# Altium footprint library EV-MICRO287-MINI.PcbLib: 1 footprints
Each footprint in its own frame and in the unit in brackets; x right, y up, seen from the top. Pads: shape width x height; smd on the part's side, far side on the other; paste and mask are expansions set on the pad; w line width, h text height; cw(c..) or ccw(c..) is an arc to the next point about the centre after c.
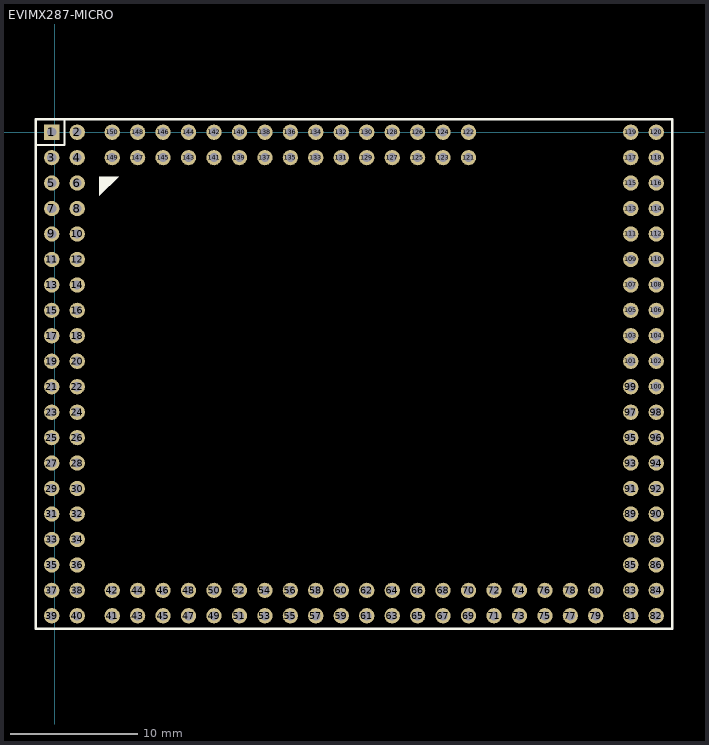
[diagram p0: the footprint, top view; thin cyan lines are the x and y axes]

## EVIMX287-MICRO [mm]
pads (150):
  rect 1.2x1.2 hole 0.711: 1(-0.25,0)
  round 1.2 hole 0.711: 2(1.75,0) 3(-0.25,-2) 4(1.75,-2) 5(-0.25,-4) 6(1.75,-4) 7(-0.25,-6) 8(1.75,-6) 9(-0.25,-8) 10(1.75,-8) 11(-0.25,-10) 12(1.75,-10) 13(-0.25,-12) 14(1.75,-12) 15(-0.25,-14) 16(1.75,-14) 17(-0.25,-16) 18(1.75,-16) 19(-0.25,-18) 20(1.75,-18) 21(-0.25,-20) 22(1.75,-20) 23(-0.25,-22) 24(1.75,-22) 25(-0.25,-24) 26(1.75,-24) 27(-0.25,-26) 28(1.75,-26) 29(-0.25,-28) 30(1.75,-28) 31(-0.25,-30) 32(1.75,-30) 33(-0.25,-32) 34(1.75,-32) 35(-0.25,-34) 36(1.75,-34) 37(-0.25,-36) 38(1.75,-36) 39(-0.25,-38) 40(1.75,-38) 41(4.5,-38) 42(4.5,-36) 43(6.5,-38) 44(6.5,-36) 45(8.5,-38) 46(8.5,-36) 47(10.5,-38) 48(10.5,-36) 49(12.5,-38) 50(12.5,-36) 51(14.5,-38) 52(14.5,-36) 53(16.5,-38) 54(16.5,-36) 55(18.5,-38) 56(18.5,-36) 57(20.5,-38) 58(20.5,-36) 59(22.5,-38) 60(22.5,-36) 61(24.5,-38) 62(24.5,-36) 63(26.5,-38) 64(26.5,-36) 65(28.5,-38) 66(28.5,-36) 67(30.5,-38) 68(30.5,-36) 69(32.5,-38) 70(32.5,-36) 71(34.5,-38) 72(34.5,-36) 73(36.5,-38) 74(36.5,-36) 75(38.5,-38) 76(38.5,-36) 77(40.5,-38) 78(40.5,-36) 79(42.5,-38) 80(42.5,-36) 81(45.25,-38) 82(47.25,-38) 83(45.25,-36) 84(47.25,-36) 85(45.25,-34) 86(47.25,-34) 87(45.25,-32) 88(47.25,-32) 89(45.25,-30) 90(47.25,-30) 91(45.25,-28) 92(47.25,-28) 93(45.25,-26) 94(47.25,-26) 95(45.25,-24) 96(47.25,-24) 97(45.25,-22) 98(47.25,-22) 99(45.25,-20) 100(47.25,-20) 101(45.25,-18) 102(47.25,-18) 103(45.25,-16) 104(47.25,-16) 105(45.25,-14) 106(47.25,-14) 107(45.25,-12) 108(47.25,-12) 109(45.25,-10) 110(47.25,-10) 111(45.25,-8) 112(47.25,-8) 113(45.25,-6) 114(47.25,-6) 115(45.25,-4) 116(47.25,-4) 117(45.25,-2) 118(47.25,-2) 119(45.25,0) 120(47.25,0) 121(32.5,-2) 122(32.5,0) 123(30.5,-2) 124(30.5,0) 125(28.5,-2) 126(28.5,0) 127(26.5,-2) 128(26.5,0) 129(24.5,-2) 130(24.5,0) 131(22.5,-2) 132(22.5,0) 133(20.5,-2) 134(20.5,0) 135(18.5,-2) 136(18.5,0) 137(16.5,-2) 138(16.5,0) 139(14.5,-2) 140(14.5,0) 141(12.5,-2) 142(12.5,0) 143(10.5,-2) 144(10.5,0) 145(8.5,-2) 146(8.5,0) 147(6.5,-2) 148(6.5,0) 149(4.5,-2) 150(4.5,0)
Top Overlay:
  region: 3.5,-3.5 3.5,-5 5,-3.5
  lines w0.178: -1.5,-1 0.75,-1 0.75,1
  lines w0.203: -1.5,-39 48.5,-39 48.5,1 -1.5,1 -1.5,-39